# EAGLE library part MAXIM-INTERFACE-MAX3070E (library duraTerm)
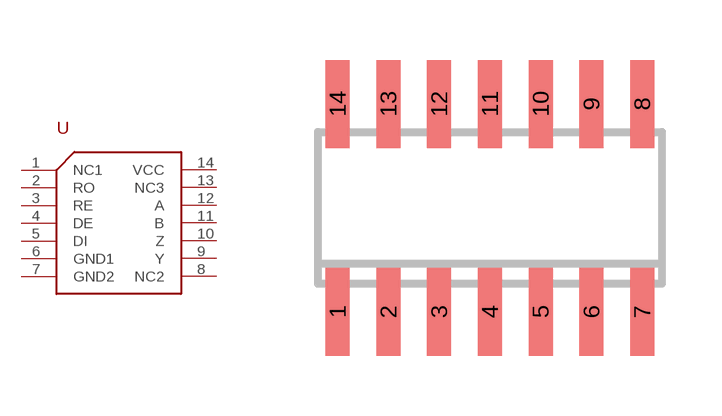
[diagram p1: symbol with the pads of SO-14; footprint SO-14]

Designator prefix U

## MAXIM-INTERFACE-MAX3070E  [SO-14]
1  NC1
2  RO
3  RE
4  DE
5  DI
6  GND1
7  GND2
8  NC2
9  Y
10  Z
11  B
12  A
13  NC3
14  VCC

## Footprint SO-14 (pad centres in mm)
Small Outline Narrow Plastic Gull Wing 150-mil body, package type SL
smd 0.6 x 2.2: 1 -3.81,-2.6; 2 -2.54,-2.6; 3 -1.27,-2.6; 4 0,-2.6; 5 1.27,-2.6; 6 2.54,-2.6; 7 3.81,-2.6; 8 3.81,2.6; 9 2.54,2.6; 10 1.27,2.6; 11 0,2.6; 12 -1.27,2.6; 13 -2.54,2.6; 14 -3.81,2.6